# Altium integrated library Motorola Interface DC Motor Controller.IntLib: 2 symbols
Pins are listed as number, name and electrical type; pins without a type are passive.

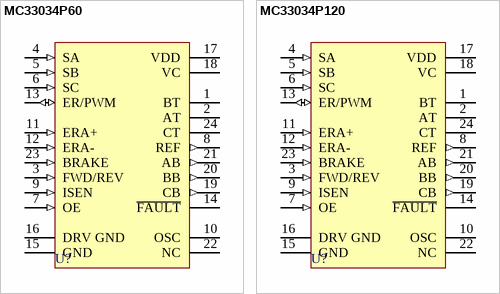
[diagram p0: symbols MC33034P60 to MC33034P120]

## MC33034P60
designator U?
DC Brushless Motor Controller; Published: 17-Jul-2002; LatestRevisionDate: 06-Jun-2005; LatestRevisionNote: Stylized 3D Model Added.; DatasheetVersion: 1988; PackageReference: 724-03; Publisher: Altium Limited; PackageDescription: DIP; 24 Leads; Row Spacing 7.62 mm; Pitch 2.54 mm; Code_JEDEC: MS-001-AF
footprint 724-03 (DIP; 24 Leads; Row Spacing 7.62 mm; Pitch 2.54 mm)
3D model 724-03 (DIP; 24 Leads; Row Spacing 7.62 mm; Pitch 2.54 mm)
pins: 1 BT (oc), 2 AT (oc), 3 FWD/REV (in), 4 SA (in), 5 SB (in), 6 SC (in), 7 OE (in), 8 REF (out), 9 ISEN (in), 10 OSC, 11 ERA+ (in), 12 ERA- (in), 13 ER/PWM (io), 14 ~{FAULT} (oc), 15 GND (power), 16 DRV GND (power), 17 VDD (power), 18 VC (power), 19 CB (out), 20 BB (out), 21 AB (out), 22 NC, 23 BRAKE (in), 24 CT (oc)

## MC33034P120
designator U?
DC Brushless Motor Controller; Published: 17-Jul-2002; LatestRevisionDate: 06-Jun-2005; LatestRevisionNote: Stylized 3D Model Added.; DatasheetVersion: 1988; PackageReference: 724-03; Publisher: Altium Limited; PackageDescription: DIP; 24 Leads; Row Spacing 7.62 mm; Pitch 2.54 mm; Code_JEDEC: MS-001-AF
footprint 724-03 (DIP; 24 Leads; Row Spacing 7.62 mm; Pitch 2.54 mm)
3D model 724-03 (DIP; 24 Leads; Row Spacing 7.62 mm; Pitch 2.54 mm)
pins: 1 BT (oc), 2 AT (oc), 3 FWD/REV (in), 4 SA (in), 5 SB (in), 6 SC (in), 7 OE (in), 8 REF (out), 9 ISEN (in), 10 OSC, 11 ERA+ (in), 12 ERA- (in), 13 ER/PWM (io), 14 ~{FAULT} (oc), 15 GND (power), 16 DRV GND (power), 17 VDD (power), 18 VC (power), 19 CB (out), 20 BB (out), 21 AB (out), 22 NC, 23 BRAKE (in), 24 CT (oc)